# Altium schematic symbol library NP15P04SLG.SchLib: 1 symbol
Pins are listed as number, name and electrical type; pins without a type are passive.

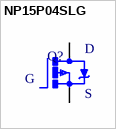
[diagram p0: symbol NP15P04SLG]

## NP15P04SLG
designator Q?  (value not drawn)
P-Channel 55V 18A (Tc) 57W (Tc) Surface Mount D-Pak; MP: IRFR5505; MF: Infineon Technologies; SnapEDA_Link: https://www.snapeda.com/parts/IRFR5505/Infineon%20Technologies/view-part/140225/?ref=snap; Price: None; Package: TO-252 International Rectifier; Availability: Bad; Value: *
footprint DPAK
pins: 1 G, 3 S, 4 D